# EAGLE library part CONNECTOR6_V2 (library conn4)
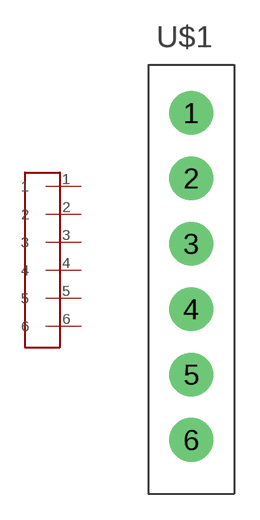
[diagram p2: symbol with the pads of CONNECTOR6_V2; footprint CONNECTOR6_V2]

Designator prefix -

## CONNECTOR6_V2  [CONNECTOR6_V2]
1  1
2  2
3  3
4  4
5  5
6  6

## Footprint CONNECTOR6_V2 (pad centres in mm)
drill 1.27 pad 2.54: 1 -0.5,-3.81; 2 -0.5,-7.62; 3 -0.5,-11.43; 4 -0.5,-15.24; 5 -0.5,-19.05; 6 -0.5,-22.86